# Altium schematic symbol library IC_Vishay_TSOP38238_eec.SchLib: 1 symbol
Pins are listed as number, name and electrical type; pins without a type are passive.

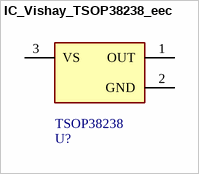
[diagram p0: symbol IC_Vishay_TSOP38238_eec]

## IC_Vishay_TSOP38238_eec
designator U?  Part Number: TSOP38238
IC IR RCVR MOD 38KHZ DOME RADIAL; Manufacturer: Vishay; helpURL: https://upverter.com/upn/revision/415f0ba2412af72c/; ComponentLink2Description: Datasheet; Temperature: -25°C to +85°C; Package: PTH_5MM0_4MM8; Supplier 2: Mouser; Price: 0.634955148256; Supplier 1: Digi-Key; ComponentLink1URL: https://upverter.com/upn/revision/415f0ba2412af72c/; Supplier Part Number 2: 782-TSOP38238; Supplier Part Number 1: 751-1227-ND; ComponentLink1Description: Upverter; ComponentLink2URL: http://www.vishay.com/docs/82491/tsop382.pdf; RoHS: TRUE; Mouser Part Number: 782-TSOP38238; Temperature Range High: +85°C; Digikey Description: IC IR RCVR MOD 38KHZ DOME RADIAL; Digikey Part Number: 751-1227-ND; Lead Free: yes; Temperature Range Low: -25°C
footprint Vishay_TSOP38238_0
pins: 1 OUT, 2 GND, 3 VS